# Altium footprint library PcbLib1.PcbLib: 36 footprints (part 1 of 3)
Each footprint in its own frame and in the unit in brackets; x right, y up, seen from the top. Pads: shape width x height; smd on the part's side, far side on the other; paste and mask are expansions set on the pad; w line width, h text height; cw(c..) or ccw(c..) is an arc to the next point about the centre after c.
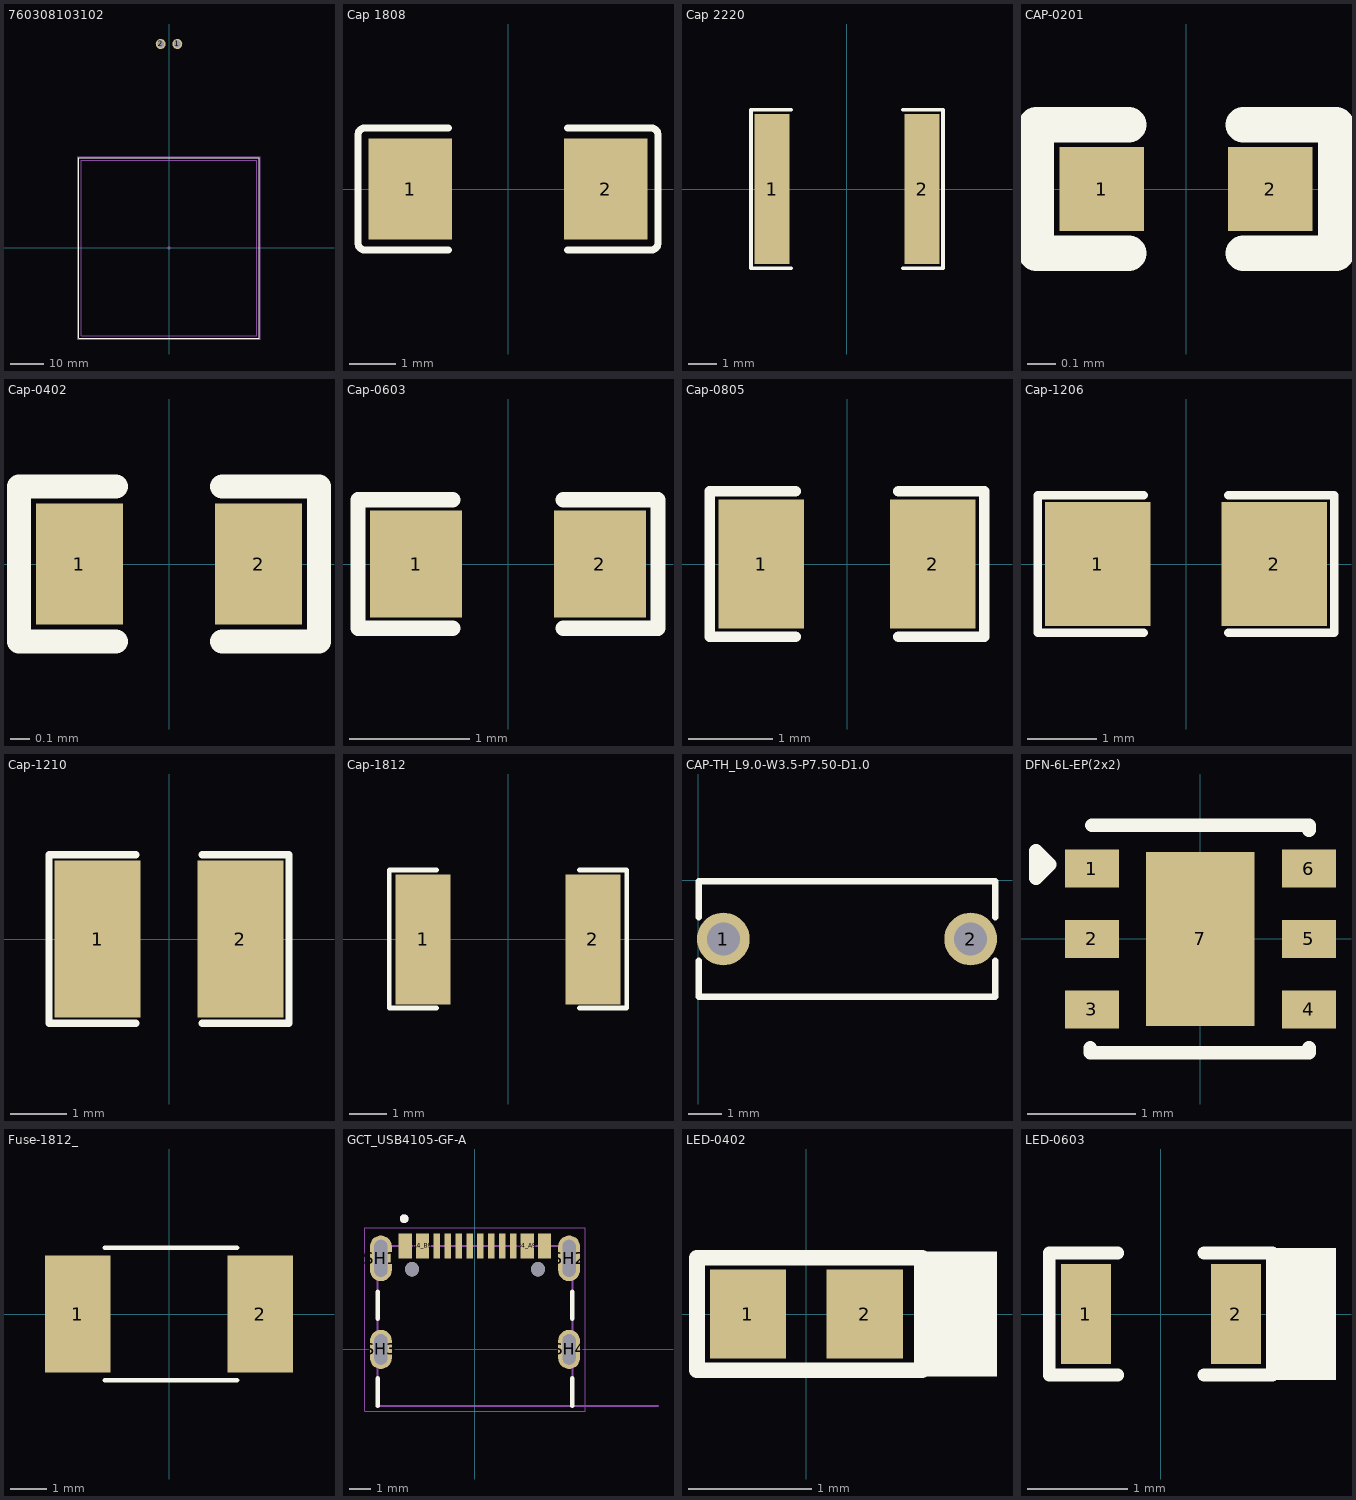
[diagram p0: the footprints below, top view; thin cyan lines are the x and y axes]

## 760308103102 [mm] "Wireless Power Transfer Transmitter Coil, body 54.5x54.5mm"
height 2.4
pads (2):
  round 3 hole 2: 1(2.5,61.5) 2(-2.5,61.5)
Top Overlay:
  lines w0.2: -27.25,-27.25 27.25,-27.25 27.25,27.25 -27.25,27.25 -27.25,-27.25
Top 3D Body:
  lines w0.1: -26.5,-26.5 -26.5,26.5 26.5,26.5 26.5,-26.5 -26.5,-26.5
Top Courtyard:
  lines w0.05: -27.45,-27.45 -27.45,27.45 27.45,27.45 27.45,-27.45 -27.45,-27.45
Assembly Notes:
  text "Pitch 5mm min." at -6,58 h1.22
Top Component Outline:
  lines w0.1: -26.5,-26.5 26.5,-26.5 26.5,26.5 -26.5,26.5 -26.5,-26.5
Top Component Center:
  lines w0.05: -0.5,0 0.5,0 ; 0,-0.5 0,0.5
Top Designator:
  text ".Designator" at -7.498,-0.5 h1.5
3D body "760308103102.stp": height 3.59, standoff 0.05, extent -26.5,-26.5 26.5,66.51

## Cap 1808 [mm]
pads (2):
  rect 1.785x2.16 smd paste+0 mask+0.051: 1(-2.093,0) 2(2.093,0)
Top Overlay:
  lines w0.152: -1.276,-1.309 -3.061,-1.309 cw(c-3.061,-1.156) -3.214,-1.156 -3.214,1.156 cw(c-3.061,1.156) -3.061,1.309 -1.276,1.309 ; 1.276,-1.309 3.061,-1.309 ccw(c3.061,-1.156) 3.214,-1.156 3.214,1.156 ccw(c3.061,1.156) 3.061,1.309 1.276,1.309
3D body "1808AA101KAT1A--3DModel-STEP-510211.STEP": height 1.45, standoff 0, extent -2.3,-1 2.3,1

## Cap 2220 [mm]
pads (2):
  rect 1.2x5.2 smd: 1(-2.6,0) 2(2.6,0)
Top Overlay:
  lines w0.127: -1.93,-2.749 -3.327,-2.749 -3.327,2.749 -1.93,2.749 ; 1.93,-2.749 3.327,-2.749 3.327,2.749 1.93,2.749
3D body "CAP2220.stp": height 2.24, standoff -0.04, extent -2.85,-2.5 2.85,2.5

## CAP-0201 [mm]
pads (2):
  rect 0.3x0.3 smd mask+0.055: 1(-0.3,0) 2(0.3,0)
Top Overlay:
  lines w0.127: -0.203,-0.229 -0.533,-0.229 -0.533,0.229 -0.203,0.229 ; 0.203,-0.229 0.533,-0.229 0.533,0.229 0.203,0.229
3D body "User Library-SMD Ceramic Capacitors_0201 (0603)_AB.STEP": height 0.28, standoff -0.02, extent -0.3,-0.15 0.301,0.15

## Cap-0402 [mil]
pads (2):
  rect 18x25 smd mask+2.36: 1(-18.5,0) 2(18.5,0)
Top Overlay:
  lines w5: -11,-16 -31,-16 -31,16 -11,16 ; 11,-16 31,-16 31,16 11,16
3D body "User Library-Capacitor 0402.step": height 18.5, standoff -1.18, extent -19.68,-9.84 19.7,9.85

## Cap-0603 [mil]
pads (2):
  rect 30x35 smd mask+2.36: 1(-30,0) 2(30,0)
Top Overlay:
  lines w5: -18,-21 -49,-21 -49,21 -18,21 ; 18,-21 49,-21 49,21 18,21
3D body "User Library-CAPC1608X09.step": height 34.25, standoff -1.18, extent -31.51,-15.75 31.49,15.74

## Cap-0805 [mil] "SMD 0805"
pads (2):
  rect 40x60 smd mask+2.76: 1(-40,0) 2(40,0)
Top Overlay:
  lines w5: -24,-34 -64,-34 -64,34 -24,34 ; 24,-34 64,-34 64,34 24,34
3D body "User Library-0805 SMD Capacitor.step": height 30, standoff -0.79, extent -39.36,-24.6 39.38,24.61

## Cap-1206 [mil] "SMD 1206"
pads (2):
  rect 60x70 smd: 1(-50,0) 2(50,0)
Top Overlay:
  lines w5: -24,-39 -84,-39 -84,39 -24,39 ; 24,-39 84,-39 84,39 24,39
3D body "User Library-1206 SMD Capacitor.step": height 39.45, standoff 0, extent -62.96,-31.46 63.03,31.53

## Cap-1210 [mil] "SMD 1210"
pads (2):
  rect 60x110 smd: 1(-50,0) 2(50,0)
Top Overlay:
  lines w5: -23,-59 -84,-59 -84,59 -23,59 ; 23,-59 84,-59 84,59 23,59
3D body "User Library-CAPC3225X10.step": height 39.37, standoff 0, extent -62.99,-49.21 63,49.22

## Cap-1812 [mm]
pads (2):
  rect 1.485x3.507 smd: 1(-2.293,0) 2(2.293,0)
Top Overlay:
  lines w0.127: -1.93,-1.85 -3.2,-1.85 -3.2,1.875 -1.93,1.875 ; 1.93,-1.85 3.2,-1.85 3.2,1.875 1.93,1.875
3D body "CAP_4532_TDK.step": height 2.79, standoff 0, extent -2.451,-1.803 2.451,1.803

## CAP-TH_L9.0-W3.5-P7.50-D1.0 [mm]
pads (2):
  round 1.6 hole 1: 1(0.762,-1.778) 2(8.262,-1.778)
Top Overlay:
  lines w0.2: 0.012,-2.444 0.012,-3.528 9.012,-3.528 9.012,-2.444 ; 0.012,-1.112 0.012,-0.028 9.012,-0.028 9.012,-1.112
3D body "3D_PCB_NEW_PCB_2024-02-19_2025-11-18 (1).step": height 10.6, standoff -1.9, extent 0.072,-3.529 9.072,-0.028

## DFN-6L-EP(2x2) [mm]
pads (7):
  rect 0.5x0.35 smd paste+0 mask+0.051: 1(-1,0.65) 2(-1,0) 3(-1,-0.65) 4(1,-0.65) 5(1,0) 6(1,0.65)
  rect 1x1.6 smd paste+0 mask+0.051: 7(0,0)
Top Overlay:
  lines w0.127: -1.016,-1.049 -1.016,-1.005 ; -1,-1.049 1,-1.049 1,-1.005 ; -1,1.049 1,1.049 1,1.005 ; -1.516,0.56 -1.516,0.814 -1.389,0.687 -1.516,0.56
3D body "C22373734.step": height 0.82, standoff 0, extent -1.01,-1 1.01,1

## Fuse-1812_ [mm]
pads (2):
  rect 1.78x3.2 smd: 1(-2.49,0) 2(2.49,0)
Top Overlay:
  lines w0.127: -1.753,-1.803 1.854,-1.803 ; -1.753,1.803 1.854,1.803
3D body "User Library-Fuse 1812.step": height 1.03, standoff 0, extent -2.365,-1.74 2.37,1.74

## GCT_USB4105-GF-A [mm]
height 3.31
pads (18):
  rect 0.6x1.15 smd mask+0.05: A1_B12(-3.2,4.755) A4_B9(-2.4,4.755) B1_A12(3.2,4.755) B4_A9(2.4,4.755)
  rect 0.3x1.15 smd mask+0.05: A5(-1.25,4.755) A6(-0.25,4.755) A7(0.25,4.755) A8(1.25,4.755) B5(1.75,4.755) B6(0.75,4.755) B7(-0.75,4.755) B8(-1.75,4.755)
  oval 1x2.1 hole 0.6 slot 1.7 at 90 deg: SH1(-4.32,4.18) SH2(4.32,4.18)
  oval 1x1.8 hole 0.6 slot 1.4 at 90 deg: SH3(-4.32,0) SH4(4.32,0)
  round 0.65 hole 0.65 unplated: ""(-2.89,3.68) ""(2.89,3.68)
Top Overlay:
  circle w0.2: c-3.25,6 r0.1
  lines w0.2: -4.47,-2.6 -4.47,-1.32 ; -4.47,1.4 -4.47,2.65 ; 4.47,-2.6 4.47,-1.32 ; 4.47,1.4 4.47,2.65
Mechanical 13:
  circle w0.2: c-3.25,6 r0.1
  lines w0.1: 8.4,-2.6 4.47,-2.6 ; 4.47,-2.6 -4.47,-2.6 -4.47,4.75 4.47,4.75 4.47,-2.6
  text "PCB EDGE" at 5.4,-2.5 h0.41
Mechanical 15:
  lines w0.05: -5.07,-2.85 5.07,-2.85 5.07,5.58 -5.07,5.58 -5.07,-2.85
3D body "USB4105-GF-A--3DModel-STEP-510211.STEP": height 3.31, standoff -1.1, extent -4.47,-2.6 4.47,5.11

## LED-0402 [mm]
pads (2):
  rect 0.62x0.72 smd: 1(-0.475,0) 2(0.475,0)
Top Overlay:
  rectangle: 0.94,-0.508 1.549,0.508
  lines w0.127: -0.889,-0.457 0.94,-0.457 0.94,0.457 -0.889,0.457 -0.889,-0.457
3D body "User Library-LED-0402.step": height 0.45, standoff 0, extent -0.505,-0.25 0.505,0.25

## LED-0603 [mm]
pads (2):
  rect 0.5x1 smd: 1(-0.75,0) 2(0.75,0)
Top Overlay:
  rectangle: 1.118,-0.66 1.753,0.66
  lines w0.127: -0.432,-0.61 -1.118,-0.61 -1.118,0.61 -0.432,0.61 ; 0.432,-0.61 1.118,-0.61 1.118,0.61 0.432,0.61
3D body "User Library-LED SMD0603.step": height 0.68, standoff 0, extent -0.825,-0.369 0.825,0.356